# Altium schematic symbol library SN8F5762.SchLib: 1 symbol
Pins are listed as number, name and electrical type; pins without a type are passive.

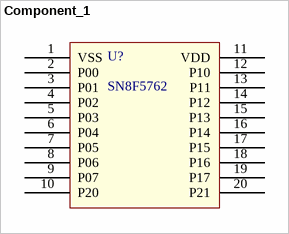
[diagram p0: symbol Component_1]

## Component_1
designator U?, comment SN8F5762
pins: 1 VSS, 2 P00, 3 P01, 4 P02, 5 P03, 6 P04, 7 P05, 8 P06, 9 P07, 10 P20, 11 VDD, 12 P10, 13 P11, 14 P12, 15 P13, 16 P14, 17 P15, 18 P16, 19 P17, 20 P21